# Altium integrated library nanotec.IntLib: 1 symbol
Pins are listed as number, name and electrical type; pins without a type are passive.

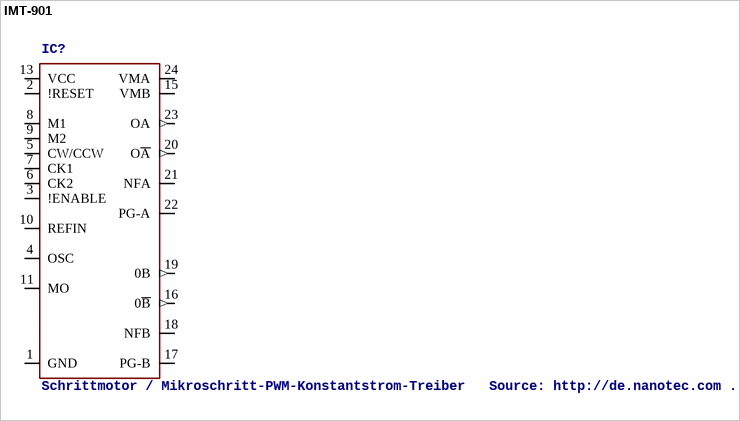
[diagram p0: symbol IMT-901]

## IMT-901
designator IC?, comment Schrittmotor / Mikroschritt-PWM-Konstantstrom-Treiber   Source: http://de.nanotec.com .. s094-095_leistungsendst_IMT901.pdf
MPN: IMT-901; OC_FARNELL: 4743295; OC_NEWARK: 17M9708
footprint SIL25
pins: 1 GND (power), 2 !RESET, 3 !ENABLE, 4 OSC, 5 CW/CCW, 6 CK2, 7 CK1, 8 M1, 9 M2, 10 REFIN, 11 MO, 12 NC@1, 13 VCC (power), 14 NC@2, 15 VMB, 16 0~{B} (out), 17 PG-B, 18 NFB, 19 0B (out), 20 O~{A} (out), 21 NFA, 22 PG-A, 23 OA (out), 24 VMA, 25 NC@3